# Altium schematic symbol library ESP32S.SchLib: 12 symbols
Pins are listed as number, name and electrical type; pins without a type are passive.

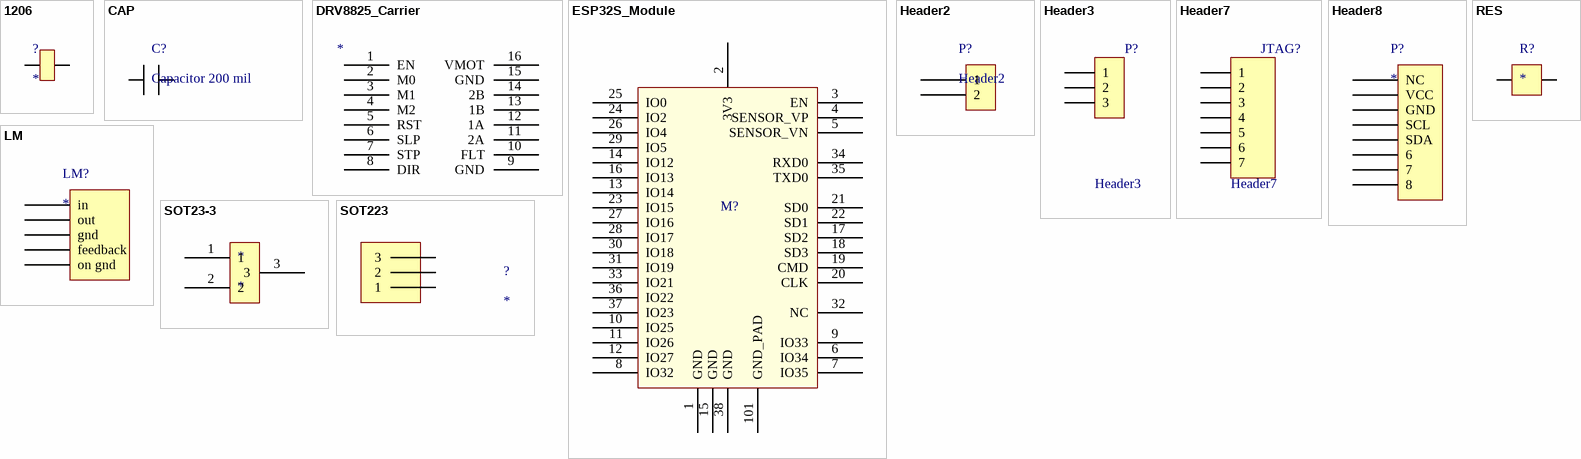
[diagram p0: symbols 1206 to SOT223]

## 1206
designator ?
1206
footprint 1206
pins: 1, 2

## CAP
designator C?, comment Capacitor 200 mil
Capacitor 200 mil pin distance
footprint circular 200 mil
pins: 1, 2

## DRV8825_Carrier
designator *
Carrier PCB for DRV8825
footprint DRV8825 Carrier
pins: 1 EN, 2 M0, 3 M1, 4 M2, 5 RST, 6 SLP, 7 STP, 8 DIR, 9 GND, 10 FLT, 11 2A, 12 1A, 13 1B, 14 2B, 15 GND, 16 VMOT

## ESP32S_Module
designator M?  (value not drawn)
Esp-32S; Datasheet: https://espressif.com/sites/default/files/documentation/esp_wroom_32_datasheet_en.pdf
footprint ESP32S (ESP32S-Module)
footprint ESP32S_W (Esp32S Module wide for hand soldering)
pins: 1 GND (power), 2 3V3 (power), 3 EN (power), 4 SENSOR_VP, 5 SENSOR_VN, 6 IO34, 7 IO35, 8 IO32, 9 IO33, 10 IO25, 11 IO26, 12 IO27, 13 IO14, 14 IO12, 15 GND (power), 16 IO13, 17 SD2, 18 SD3, 19 CMD, 20 CLK, 21 SD0, 22 SD1, 23 IO15, 24 IO2, 25 IO0, 26 IO4, 27 IO16, 28 IO17, 29 IO5, 30 IO18, 31 IO19, 32 NC, 33 IO21, 34 RXD0, 35 TXD0, 36 IO22, 37 IO23, 38 GND (power), 101 GND_PAD (power)

## Header2
designator P?
Header, 2-Pin
footprint 1X2MINITUSKE (Connector; Header; 7 Position; Right Angle)
footprint 1x2TUSKE
pins: 1, 2

## Header3
designator P?
Header, 3-Pin; LatestRevisionDate: 17-Jul-2002; LatestRevisionNote: Re-released for DXP Platform.; Publisher: Altium Limited
footprint 1X3minituske (Connector; Header; 3 Position; Right Angle)
footprint 1x3TUSKE
pins: 1, 2, 3

## Header7
designator JTAG?
Header, 7-Pin; LatestRevisionDate: 17-Jul-2002; LatestRevisionNote: Re-released for DXP Platform.; Publisher: Altium Limited
footprint 1X7minituske (Connector; Header; 7 Position; Right Angle)
pins: 1, 2, 3, 4, 5, 6, 7

## Header8
designator P?
footprint 1x8TUSKE
pins: 1 NC, 2 VCC, 3 GND, 4 SCL, 5 SDA, 6, 7, 8

## LM
designator LM?
footprint TO 22Ö
pins: 1 in, 2 out, 3 gnd, 4 feedback, 5 on gnd

## RES
designator R?
footprint LINEAR 100 MIL
pins: 1, 2

## SOT23-3
designator *
footprint SOT23-3
pins: 1, 2, 3

## SOT223
designator ?
3v3 regulator
footprint SOT223
pins: 1, 2, 3